# EAGLE library part S7G2_X_176 (library Labops_Lib_AH)
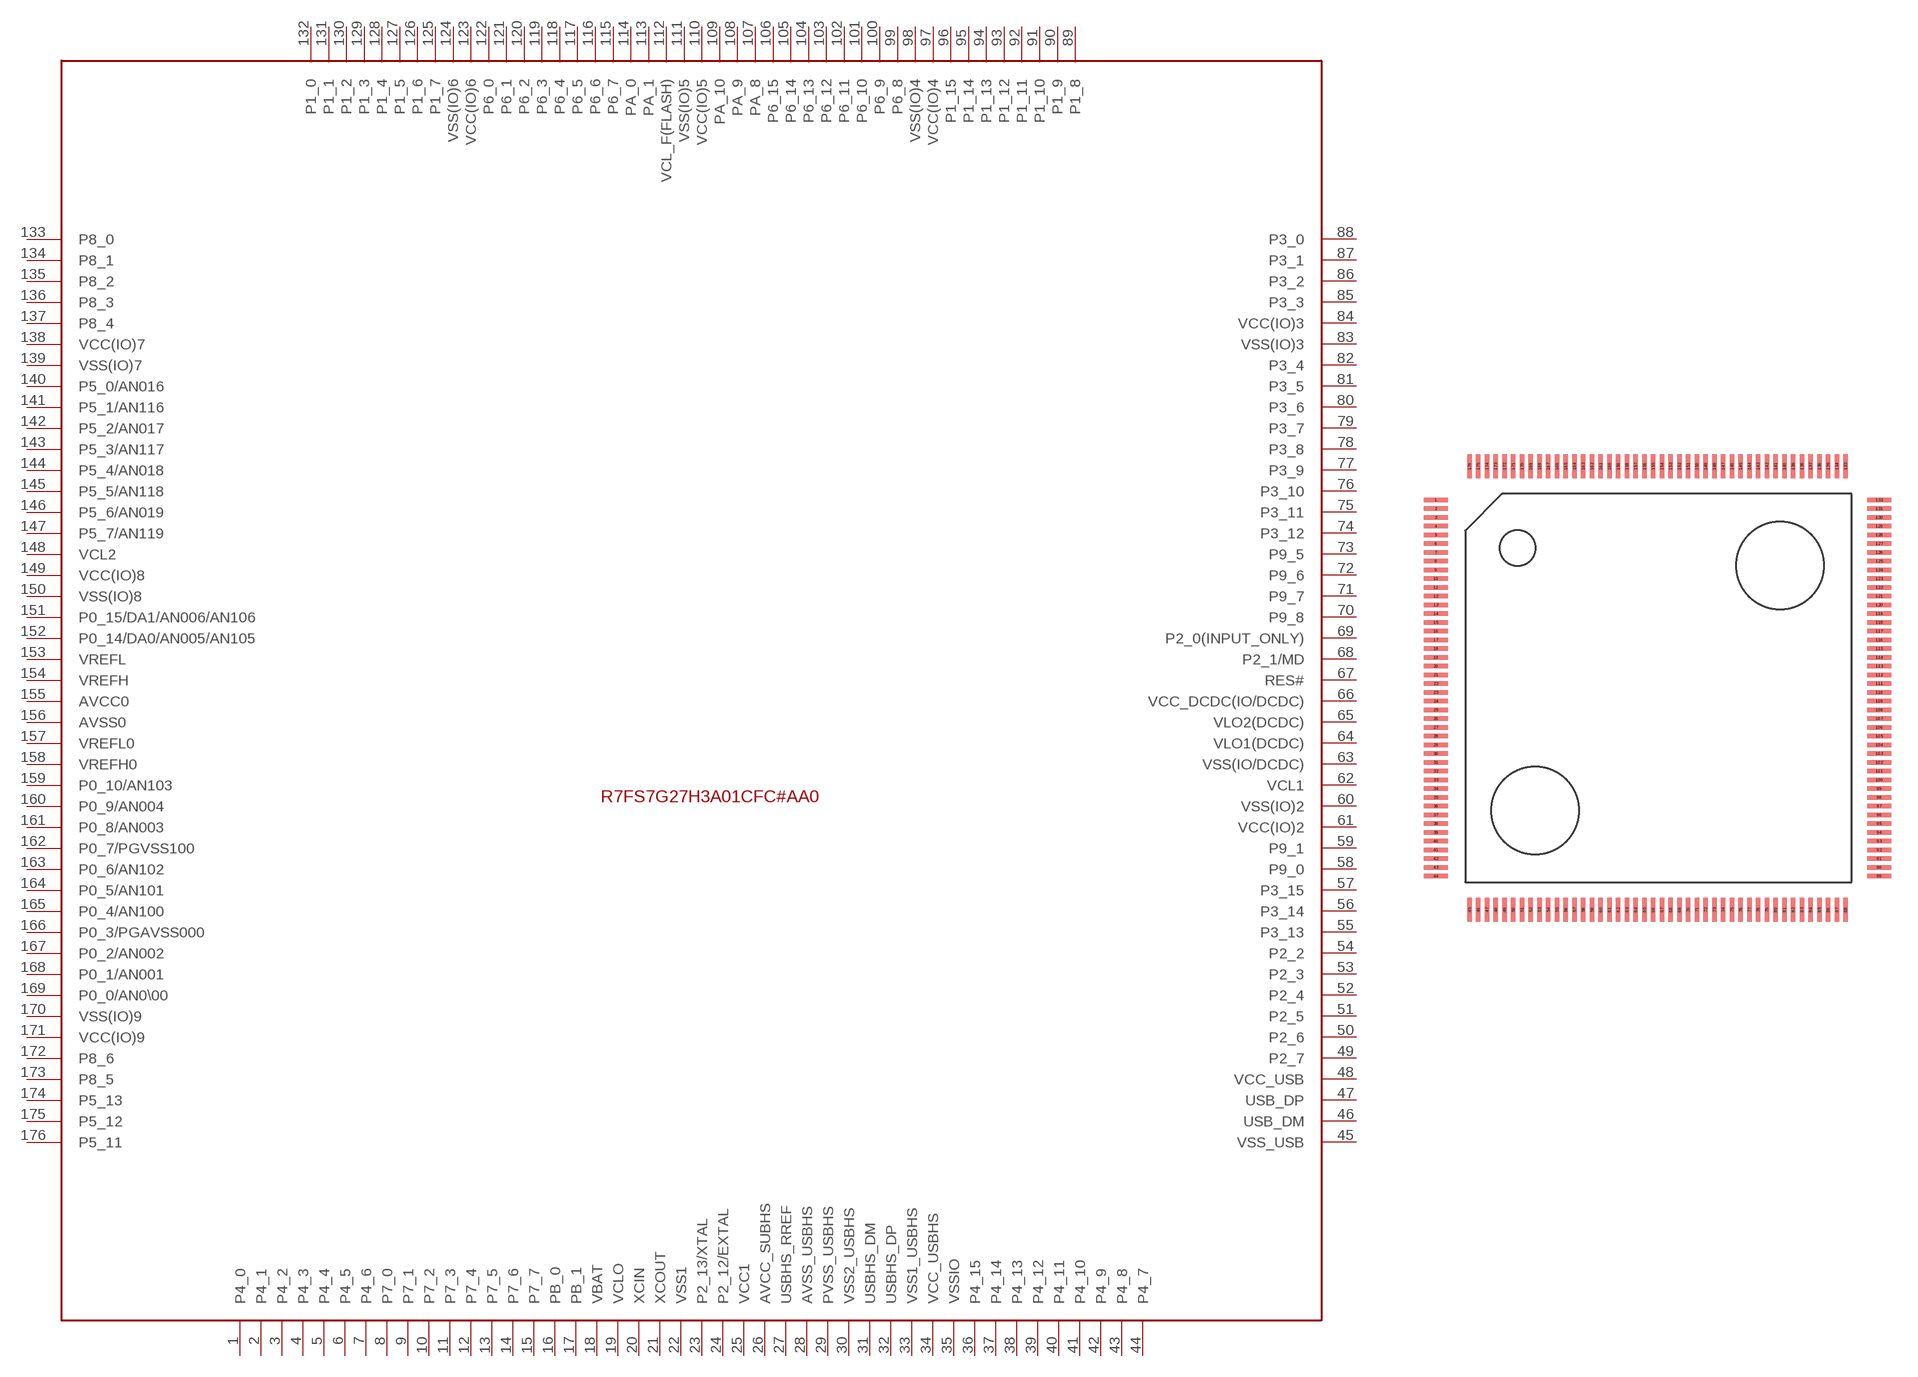
[diagram p24: symbol with the pads of LQFP176_24X24; footprint LQFP176_24X24]

Designator prefix U

## S7G2_X_176 (MFR: Renesas; MPN: R7FS7G27H3A01CFC; PARTNO: R7FS7G27H3A01CFC#AA0; VALUE: S7G2LQFP176)  [LQFP176_24X24]
1  P4_0
2  P4_1
3  P4_2
4  P4_3
5  P4_4
6  P4_5
7  P4_6
8  P7_0
9  P7_1
10  P7_2
11  P7_3
12  P7_4
13  P7_5
14  P7_6
15  P7_7
16  PB_0
17  PB_1
18  VBAT
19  VCLO
20  XCIN
21  XCOUT
22  VSS1
23  P2_13/XTAL
24  P2_12/EXTAL
25  VCC1
26  AVCC_SUBHS
27  USBHS_RREF
28  AVSS_USBHS
29  PVSS_USBHS
30  VSS2_USBHS
31  USBHS_DM
32  USBHS_DP
33  VSS1_USBHS
34  VCC_USBHS
35  VSSIO
36  P4_15
37  P4_14
38  P4_13
39  P4_12
40  P4_11
41  P4_10
42  P4_9
43  P4_8
44  P4_7
45  VSS_USB
46  USB_DM
47  USB_DP
48  VCC_USB
49  P2_7
50  P2_6
51  P2_5
52  P2_4
53  P2_3
54  P2_2
55  P3_13
56  P3_14
57  P3_15
58  P9_0
59  P9_1
60  VSS(IO)2
61  VCC(IO)2
62  VCL1
63  VSS(IO/DCDC)
64  VLO1(DCDC)
65  VLO2(DCDC)
66  VCC_DCDC(IO/DCDC)
67  RES#
68  P2_1/MD
69  P2_0(INPUT_ONLY)
70  P9_8
71  P9_7
72  P9_6
73  P9_5
74  P3_12
75  P3_11
76  P3_10
77  P3_9
78  P3_8
79  P3_7
80  P3_6
81  P3_5
82  P3_4
83  VSS(IO)3
84  VCC(IO)3
85  P3_3
86  P3_2
87  P3_1
88  P3_0
89  P1_8
90  P1_9
91  P1_10
92  P1_11
93  P1_12
94  P1_13
95  P1_14
96  P1_15
97  VCC(IO)4
98  VSS(IO)4
99  P6_8
100  P6_9
101  P6_10
102  P6_11
103  P6_12
104  P6_13
105  P6_14
106  P6_15
107  PA_8
108  PA_9
109  PA_10
110  VCC(IO)5
111  VSS(IO)5
112  VCL_F(FLASH)
113  PA_1
114  PA_0
115  P6_7
116  P6_6
117  P6_5
118  P6_4
119  P6_3
120  P6_2
121  P6_1
122  P6_0
123  VCC(IO)6
124  VSS(IO)6
125  P1_7
126  P1_6
127  P1_5
128  P1_4
129  P1_3
130  P1_2
131  P1_1
132  P1_0
133  P8_0
134  P8_1
135  P8_2
136  P8_3
137  P8_4
138  VCC(IO)7
139  VSS(IO)7
140  P5_0/AN016
141  P5_1/AN116
142  P5_2/AN017
143  P5_3/AN117
144  P5_4/AN018
145  P5_5/AN118
146  P5_6/AN019
147  P5_7/AN119
148  VCL2
149  VCC(IO)8
150  VSS(IO)8
151  P0_15/DA1/AN006/AN106
152  P0_14/DA0/AN005/AN105
153  VREFL
154  VREFH
155  AVCC0
156  AVSS0
157  VREFL0
158  VREFH0
159  P0_10/AN103
160  P0_9/AN004
161  P0_8/AN003
162  P0_7/PGVSS100
163  P0_6/AN102
164  P0_5/AN101
165  P0_4/AN100
166  P0_3/PGAVSS000
167  P0_2/AN002
168  P0_1/AN001
169  P0_0/AN0\00
170  VSS(IO)9
171  VCC(IO)9
172  P8_6
173  P8_5
174  P5_13
175  P5_12
176  P5_11

## Footprint LQFP176_24X24 (pad centres in mm)
smd 1.372 x 0.254: 1 -12.675,10.75; 2 -12.675,10.25; 3 -12.675,9.75; 4 -12.675,9.25; 5 -12.675,8.75; 6 -12.675,8.25; 7 -12.675,7.75; 8 -12.675,7.25; 9 -12.675,6.75; 10 -12.675,6.25; 11 -12.675,5.75; 12 -12.675,5.25; 13 -12.675,4.75; 14 -12.675,4.25; 15 -12.675,3.75; 16 -12.675,3.25; 17 -12.675,2.75; 18 -12.675,2.25; 19 -12.675,1.75; 20 -12.675,1.25; 21 -12.675,0.75; 22 -12.675,0.25; 23 -12.675,-0.25; 24 -12.675,-0.75; 25 -12.675,-1.25; 26 -12.675,-1.75; 27 -12.675,-2.25; 28 -12.675,-2.75; 29 -12.675,-3.25; 30 -12.675,-3.75; 31 -12.675,-4.25; 32 -12.675,-4.75; 33 -12.675,-5.25; 34 -12.675,-5.75; 35 -12.675,-6.25; 36 -12.675,-6.75; 37 -12.675,-7.25; 38 -12.675,-7.75; 39 -12.675,-8.25; 40 -12.675,-8.75; 41 -12.675,-9.25; 42 -12.675,-9.75; 43 -12.675,-10.25; 44 -12.675,-10.75; 89 12.675,-10.75; 90 12.675,-10.25; 91 12.675,-9.75; 92 12.675,-9.25; 93 12.675,-8.75; 94 12.675,-8.25; 95 12.675,-7.75; 96 12.675,-7.25; 97 12.675,-6.75; 98 12.675,-6.25; 99 12.675,-5.75; 100 12.675,-5.25; 101 12.675,-4.75; 102 12.675,-4.25; 103 12.675,-3.75; 104 12.675,-3.25; 105 12.675,-2.75; 106 12.675,-2.25; 107 12.675,-1.75; 108 12.675,-1.25; 109 12.675,-0.75; 110 12.675,-0.25; 111 12.675,0.25; 112 12.675,0.75; 113 12.675,1.25; 114 12.675,1.75; 115 12.675,2.25; 116 12.675,2.75; 117 12.675,3.25; 118 12.675,3.75; 119 12.675,4.25; 120 12.675,4.75; 121 12.675,5.25; 122 12.675,5.75; 123 12.675,6.25; 124 12.675,6.75; 125 12.675,7.25; 126 12.675,7.75; 127 12.675,8.25; 128 12.675,8.75; 129 12.675,9.25; 130 12.675,9.75; 131 12.675,10.25; 132 12.675,10.75
smd 0.254 x 1.372: 45 -10.75,-12.675; 46 -10.25,-12.675; 47 -9.75,-12.675; 48 -9.25,-12.675; 49 -8.75,-12.675; 50 -8.25,-12.675; 51 -7.75,-12.675; 52 -7.25,-12.675; 53 -6.75,-12.675; 54 -6.25,-12.675; 55 -5.75,-12.675; 56 -5.25,-12.675; 57 -4.75,-12.675; 58 -4.25,-12.675; 59 -3.75,-12.675; 60 -3.25,-12.675; 61 -2.75,-12.675; 62 -2.25,-12.675; 63 -1.75,-12.675; 64 -1.25,-12.675; 65 -0.75,-12.675; 66 -0.25,-12.675; 67 0.25,-12.675; 68 0.75,-12.675; 69 1.25,-12.675; 70 1.75,-12.675; 71 2.25,-12.675; 72 2.75,-12.675; 73 3.25,-12.675; 74 3.75,-12.675; 75 4.25,-12.675; 76 4.75,-12.675; 77 5.25,-12.675; 78 5.75,-12.675; 79 6.25,-12.675; 80 6.75,-12.675; 81 7.25,-12.675; 82 7.75,-12.675; 83 8.25,-12.675; 84 8.75,-12.675; 85 9.25,-12.675; 86 9.75,-12.675; 87 10.25,-12.675; 88 10.75,-12.675; 133 10.75,12.675; 134 10.25,12.675; 135 9.75,12.675; 136 9.25,12.675; 137 8.75,12.675; 138 8.25,12.675; 139 7.75,12.675; 140 7.25,12.675; 141 6.75,12.675; 142 6.25,12.675; 143 5.75,12.675; 144 5.25,12.675; 145 4.75,12.675; 146 4.25,12.675; 147 3.75,12.675; 148 3.25,12.675; 149 2.75,12.675; 150 2.25,12.675; 151 1.75,12.675; 152 1.25,12.675; 153 0.75,12.675; 154 0.25,12.675; 155 -0.25,12.675; 156 -0.75,12.675; 157 -1.25,12.675; 158 -1.75,12.675; 159 -2.25,12.675; 160 -2.75,12.675; 161 -3.25,12.675; 162 -3.75,12.675; 163 -4.25,12.675; 164 -4.75,12.675; 165 -5.25,12.675; 166 -5.75,12.675; 167 -6.25,12.675; 168 -6.75,12.675; 169 -7.25,12.675; 170 -7.75,12.675; 171 -8.25,12.675; 172 -8.75,12.675; 173 -9.25,12.675; 174 -9.75,12.675; 175 -10.25,12.675; 176 -10.75,12.675